# EAGLE library part VNH5019 (library SPEAR-general)
The VHN5019A-E is a full bridge motor driver intended for a wide range of automotive applications. The device incorporates a dual monolithic high-side drivers and two low-side switches. The high-side driver switch is designed using STMicroelectronics’ well known and proven proprietary VIPower® M0 technology that allows to efficiently integrate on the same die a true Power MOSFET with an intelligent signal/protection circuit.
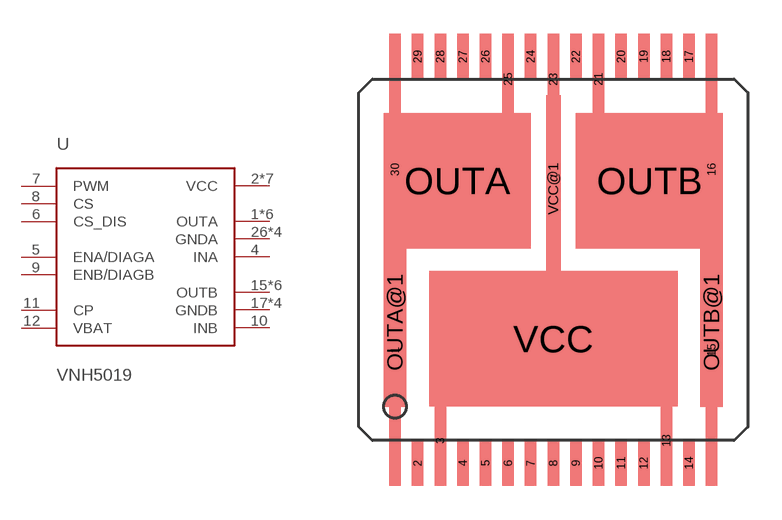
[diagram p1: symbol with the pads of MULTIPOWERSO-30; footprint MULTIPOWERSO-30]

Designator prefix -

## VNH5019  [MULTIPOWERSO-30]
1  OUTA
2  VCC
3  VCC
4  INA
5  ENA/DIAGA
6  CS_DIS
7  PWM
8  CS
9  ENB/DIAGB
10  INB
11  CP
12  VBAT
13  VCC
14  VCC
15  OUTB
16  OUTB
17  GNDB
18  GNDB
19  GNDB
20  GNDB
21  OUTB
22  OUTB
23  VCC
24  OUTA
25  OUTA
26  GNDA
27  GNDA
28  GNDA
29  GNDA
30  OUTA
OUTA  OUTA
OUTA@1  OUTA
OUTB  OUTB
OUTB@1  OUTB
VCC  VCC
VCC@1  VCC

## Footprint MULTIPOWERSO-30 (pad centres in mm)
MultiPowerSO-30 Source: http://pdf1.alldatasheet.com/datasheet-pdf/view/84563/STMICROELECTRONICS/VNH3SP30.html
smd 0.508 x 12: 1 -7,-4; 15 7,-4; 16 7,4; 30 -7,4
smd 0.508 x 2: 2 -6,-9; 4 -4,-9; 5 -3,-9; 6 -2,-9; 7 -1,-9; 8 0,-9; 9 1,-9; 10 2,-9; 11 3,-9; 12 4,-9; 14 6,-9; 17 6,9; 18 5,9; 19 4,9; 20 3,9; 22 1,9; 24 -1,9; 26 -3,9; 27 -4,9; 28 -5,9; 29 -6,9
smd 0.508 x 4: 3 -5,-8; 13 5,-8; 21 2,8; 23 0,8; 25 -2,8
smd 6.5 x 6: OUTA -4.25,3.5; OUTB 4.25,3.5
smd 1 x 7.5: OUTA@1 -7,-2.755; OUTB@1 7,-2.755
smd 11 x 6: VCC 0,-3.5
smd 0.65 x 8.3: VCC@1 0,3.145